# EAGLE library part IS25LX512M-JHLE (library IS25LX512M-JHLE)
NOR Flash 512Mb, Octal Flash, 3V, 240ball TFBGA, RoHS, IT Source: Datasheet <https://www.mouser.com/pdfDocs/Octal-Memory.pdf>
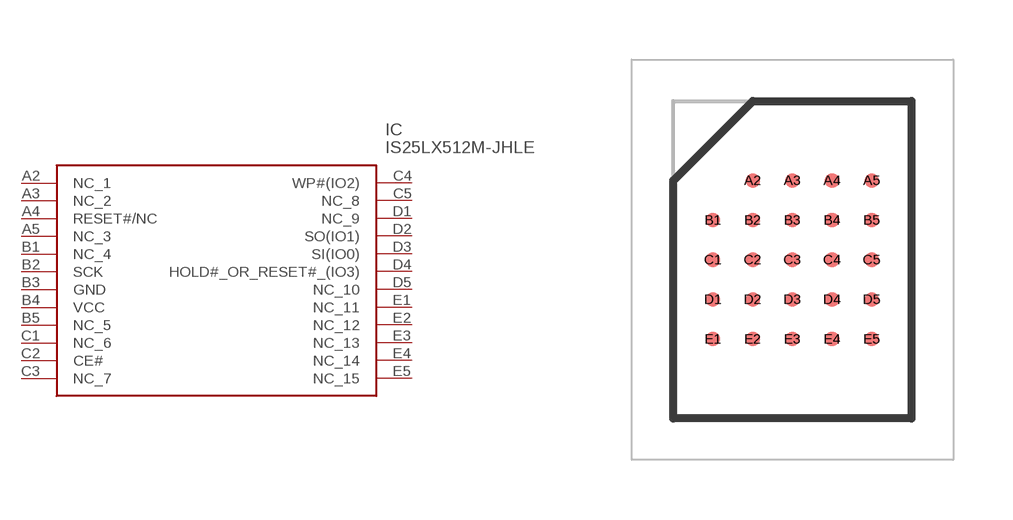
[diagram p0: symbol with the pads of BGA24C100P5X5_600X800X120; footprint BGA24C100P5X5_600X800X120]

Designator prefix IC

## IS25LX512M-JHLE (Description: NOR Flash 512Mb, Octal Flash, 3V, 240ball TFBGA, RoHS, IT; Height: 1.2mm; Manufacturer_Name: Integrated Silicon Solution Inc.; Manufacturer_Part_Number: IS25LX512M-JHLE)  [BGA24C100P5X5_600X800X120]
A2  NC_1
A3  NC_2
A4  RESET#/NC
A5  NC_3
B1  NC_4
B2  SCK
B3  GND
B4  VCC
B5  NC_5
C1  NC_6
C2  CE#
C3  NC_7
C4  WP#(IO2)
C5  NC_8
D1  NC_9
D2  SO(IO1)
D3  SI(IO0)
D4  HOLD#_OR_RESET#_(IO3)
D5  NC_10
E1  NC_11
E2  NC_12
E3  NC_13
E4  NC_14
E5  NC_15

## Footprint BGA24C100P5X5_600X800X120 (pad centres in mm)
24-BALL THIN PROFILE FINE PITCH BGA 6X8MM 5X5 BALL ARRAY (H)
smd 0.37 x 0.37: A2 -1,2; A3 0,2; A4 1,2; A5 2,2; B1 -2,1; B2 -1,1; B3 0,1; B4 1,1; B5 2,1; C1 -2,0; C2 -1,0; C3 0,0; C4 1,0; C5 2,0; D1 -2,-1; D2 -1,-1; D3 0,-1; D4 1,-1; D5 2,-1; E1 -2,-2; E2 -1,-2; E3 0,-2; E4 1,-2; E5 2,-2